# Altium schematic symbol library CD74HCT32E.SchLib: 1 symbol
Pins are listed as number, name and electrical type; pins without a type are passive.

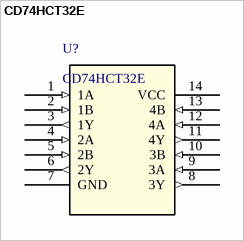
[diagram p0: symbol CD74HCT32E]

## CD74HCT32E
designator U?
OR Gate; Manufacturer_Name: Texas Instruments; Copyright: Copyright (C) 2025 Ultra Librarian. All rights reserved.; Manufacturer_Part_Number: CD74HCT32E; Datasheet: https://www.ti.com/lit/gpn/cd74hct32; RefDes: RefDes; Type: Type
footprint N14
pins: 1 1A (in), 2 1B (in), 3 1Y (out), 4 2A (in), 5 2B (in), 6 2Y (out), 7 GND (power), 8 3Y (out), 9 3A (in), 10 3B (in), 11 4Y (out), 12 4A (in), 13 4B (in), 14 VCC (power)